# Altium integrated library Displays.IntLib: 1 symbol
Pins are listed as number, name and electrical type; pins without a type are passive.

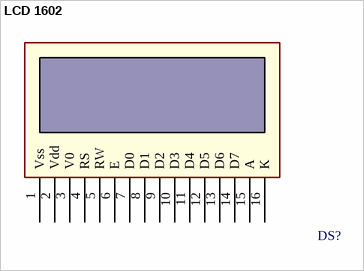
[diagram p0: symbol LCD 1602]

## LCD 1602
designator DS?  (value not drawn)
Character LCD Display Module Transflective 5 x 8 Dots STN - Super-Twisted Nematic LED - White Parallel 80.00mm x 36.00mm x 9.90mm; Manufacturer 1: Lumex Opto/Components Inc.; Manufacturer 1 PN: LCR-U01602DSF/AWH; ComponentLink1Description: Datasheet; ComponentLink1URL: https://www.lumex.com/spec/LCR-U01602DSF-A-WH.pdf; Digikey PN: 67-2091-ND; Mouser PN: LCR-U01602DSF/AWH
footprint LCD 1602 (Character LCD Display Module Transflective 5 x 8 Dots STN - Super-Twisted Nematic LED - White Parallel 80.00mm x 36.00mm x 9.90mm)
pins: 1 Vss, 2 Vdd, 3 V0, 4 RS, 5 RW, 6 E, 7 D0, 8 D1, 9 D2, 10 D3, 11 D4, 12 D5, 13 D6, 14 D7, 15 A, 16 K